# Altium schematic symbol library INA128PA.SchLib: 1 symbol
Pins are listed as number, name and electrical type; pins without a type are passive.

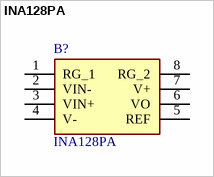
[diagram p0: symbol INA128PA]

## INA128PA
designator B?
Instrumentation amplifier,INA128PA DIP8 Texas Instruments INA128PA Instrumentation Amplifier, 125uV Offset 1.3MHz GBW, CMMR 73dB, 8-Pin PDIP; Geometry.Height: 5.08mm; Mouser Part Number: 595-INA128PA; Mouser Price/Stock: https://www.mouser.co.uk/ProductDetail/Texas-Instruments/INA128PA?qs=VBduBm9rCJQJnrDRwX514g%3D%3D; Manufacturer_Name: Texas Instruments; Manufacturer_Part_Number: INA128PA; Datasheet Link: http://www.ti.com/lit/ds/symlink/ina128.pdf
footprint DIP794W53P254L959H508Q8N
pins: 1 RG_1, 2 VIN-, 3 VIN+, 4 V-, 5 REF, 6 VO, 7 V+, 8 RG_2